# EAGLE library part ADS1115IDGSR (library Ampparts)
16-Bit ADC with Integrated MUX, PGA, Comparator, Oscillator, and Reference 10-VSSOP -40 to 125
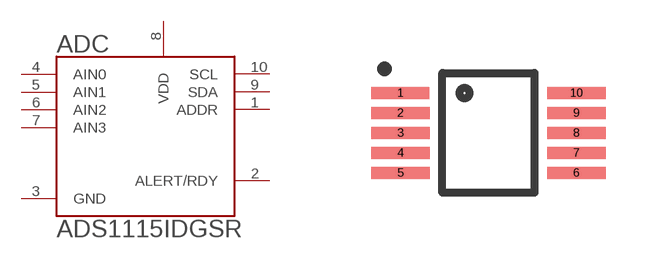
[diagram p1: symbol with the pads of SOP50P490X110-10N; footprint SOP50P490X110-10N]

Designator prefix ADC

## ADS1115IDGSR (DESCRIPTION: 16 Bit Analog to Digital Converter 2, 4 Input 1 Sigma-Delta 10-VSSOP; DIGI-KEY_PART_NUMBER: 296-38849-1-ND; MF: Texas Instruments; MP: ADS1115IDGSR; P: 402; PACKAGE: MSOP-10 Texas Instruments; TEXAS_INSTRUMENTS-PURCHASE-URL: https://snapeda.com/shop?store=Texas+Instruments&id=45903)  [SOP50P490X110-10N]
1  ADDR  in
2  ALERT/RDY  out
3  GND  pwr
4  AIN0  in
5  AIN1  in
6  AIN2  in
7  AIN3  in
8  VDD  pwr
9  SDA
10  SCL  in

## Footprint SOP50P490X110-10N (pad centres in mm)
smd 1.45 x 0.3: 1 -2.2,1
smd 1.47 x 0.3: 2 -2.2,0.5; 3 -2.2,0; 4 -2.2,-0.5; 5 -2.2,-1; 6 2.2,-1; 7 2.2,-0.5; 8 2.2,0; 9 2.2,0.5; 10 2.2,1